# EAGLE library part ACT2801 (library ACT2801)
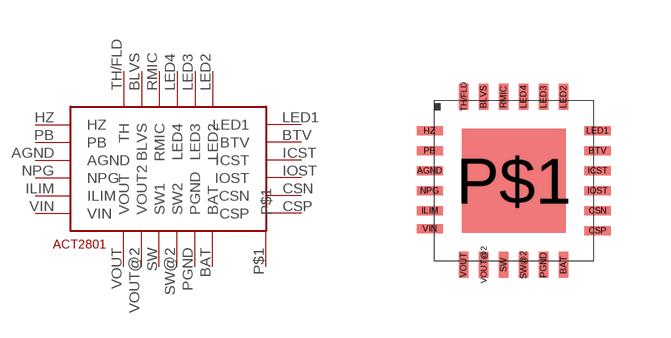
[diagram p0: symbol with the pads of QFN44-24; footprint QFN44-24]

Designator prefix -

## ACT2801  [QFN44-24]
AGND  AGND
BAT  BAT
BLVS  BLVS
BTV  BTV
CSN  CSN
CSP  CSP
HZ  HZ
ICST  ICST
ILIM  ILIM
IOST  IOST
LED1  LED1
LED2  LED2
LED3  LED3
LED4  LED4
NPG  NPG
P$1  P$1
PB  PB
PGND  PGND
RMIC  RMIC
SW  SW1
SW@2  SW2
TH/FLD  TH
VIN  VIN
VOUT  VOUT
VOUT@2  VOUT2

## Footprint QFN44-24 (pad centres in mm)
smd 0.65 x 0.23: AGND -0.1,2.25; BTV 4.1,2.75; CSN 4.1,1.25; CSP 4.1,0.75; HZ -0.1,3.25; ICST 4.1,2.25; ILIM -0.1,1.25; IOST 4.1,1.75; LED1 4.1,3.25; NPG -0.1,1.75; PB -0.1,2.75; VIN -0.1,0.8
smd 0.23 x 0.65: BAT 3.25,-0.1; BLVS 1.25,4.1; LED2 3.25,4.1; LED3 2.75,4.1; LED4 2.25,4.1; PGND 2.75,-0.1; RMIC 1.75,4.1; SW 1.75,-0.1; SW@2 2.25,-0.1; TH/FLD 0.75,4.1; VOUT 0.75,-0.1; VOUT@2 1.25,-0.1
smd 2.6 x 2.6: P$1 2,2